# Altium schematic symbol library newComponent0803.SchLib: 16 symbols
Pins are listed as number, name and electrical type; pins without a type are passive.

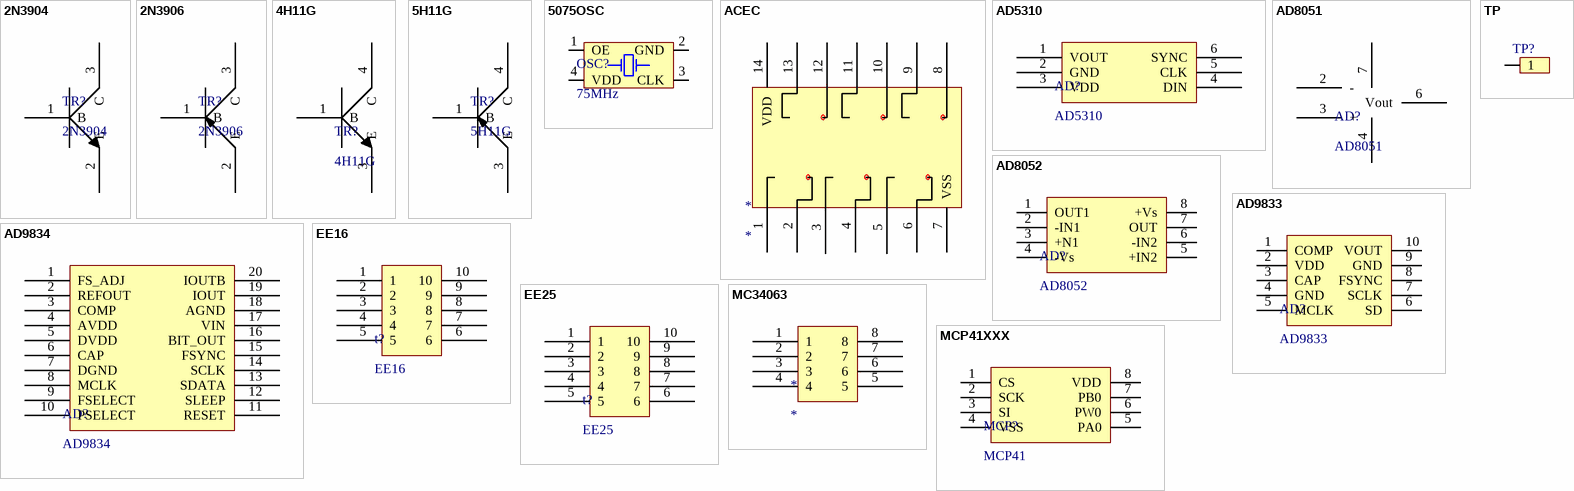
[diagram p0: symbols 2N3904 to TP]

## 2N3904
designator TR?
transistor
footprint SOT23-3
pins: 1 B, 2 E, 3 C

## 2N3906
designator TR?
transistor
footprint SOT23-3
pins: 1 B, 2 E, 3 C

## 4H11G
designator TR?
transistor
footprint DPAK
pins: 1 B, 3 E, 4 C

## 5H11G
designator TR?
transistor
footprint DPAK
pins: 1 B, 3 E, 4 C

## 5075OSC
designator OSC?, comment 75MHz
footprint XT_5032_4_N
pins: 1 OE, 2 GND, 3 CLK, 4 VDD

## ACEC
designator *
footprint SOP_E150_14
pins: 1, 2, 3, 4, 5, 6, 7 VSS, 8, 9, 10, 11, 12, 13, 14 VDD

## AD5310
designator AD?
DAC
footprint SOT23-6
pins: 1 VOUT, 2 GND, 3 VDD, 4 DIN, 5 CLK, 6 SYNC

## AD8051
designator AD?
Amplifiers
footprint SOP_E150_8
pins: 2 -, 3 +, 4 Vs-, 6 Vout, 7 Vs+

## AD8052
designator AD?
Amplifiers
footprint SOP_E150_8
pins: 1 OUT1, 2 -IN1, 3 +N1, 4 -Vs, 5 +IN2, 6 -IN2, 7 OUT, 8 +Vs

## AD9833
designator AD?
DDS
footprint MSOP_E120_P0.5_10
pins: 1 COMP, 2 VDD, 3 CAP, 4 GND, 5 MCLK, 6 SD, 7 SCLK, 8 FSYNC, 9 GND, 10 VOUT

## AD9834
designator AD?
DDS
footprint TSSOP_E170_P0.65_20
pins: 1 FS_ADJ, 2 REFOUT, 3 COMP, 4 AVDD, 5 DVDD, 6 CAP, 7 DGND, 8 MCLK, 9 FSELECT, 10 PSELECT, 11 RESET, 12 SLEEP, 13 SDATA, 14 SCLK, 15 FSYNC, 16 BIT_OUT, 17 VIN, 18 AGND, 19 IOUT, 20 IOUTB

## EE16
designator t?
transformer
footprint ee16 (transfor)
pins: 1, 2, 3, 4, 5, 6, 7, 8, 9, 10

## EE25
designator t?
transformer
footprint ee25 (transfor)
pins: 1, 2, 3, 4, 5, 6, 7, 8, 9, 10

## MC34063
designator *
footprint SOP_E150_8
pins: 1, 2, 3, 4, 5, 6, 7, 8

## MCP41XXX
designator MCP?, comment MCP41
Digital Pot
footprint SOP_E150_8
pins: 1 CS, 2 SCK, 3 SI, 4 VSS, 5 PA0, 6 PW0, 7 PB0, 8 VDD

## TP
designator TP?  (value not drawn)
test Pin
footprint TP
pins: 1